# Altium schematic symbol library MicroUSB.SchLib: 1 symbol
Pins are listed as number, name and electrical type; pins without a type are passive.

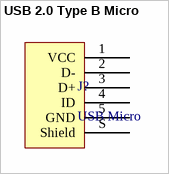
[diagram p0: symbol USB 2.0 Type B Micro]

## USB 2.0 Type B Micro
designator J?, comment USB Micro
footprint FCI USB 10118193-0001LF (USB 2.0 Type B Micro)
pins: 1 VCC, 2 D-, 3 D+, 4 ID, 5 GND, S Shield